# Altium schematic symbol library Rohm_Library.SchLib: 2 symbols
Pins are listed as number, name and electrical type; pins without a type are passive.

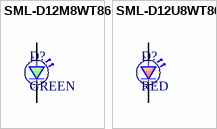
[diagram p0: symbols SML-D12M8WT86 to SML-D12U8WT86]

## SML-D12M8WT86
designator D?, comment GREEN
LED GREEN DIFFUSED 0603 SMD; Manufacturer: Rohm; Manufacturer Part Number: SML-D12M8WT86; Colour: Green,Yellow; Lens Colour: White,Clear,Diffused; Lens Style: Diffused,Colorless,Rectangular; Forward Current: 20mA; Forward Voltage: 2.2V; Luminous Intensity: 25mcd; Dominant Wavelength: 572nm; Number of LEDs: 1; Viewing Angle: 160°; Supplier 1: Mouser; Stock 1: 109326; Pricing 1: 1=0.32, 10=0.216, 50=0.216, 100=0.09, 1000=0.062, 10000=0.041 (USD); Mount: Surface Mount; Case/Package: 0603; Number of Pins: 2; Case Code (Metric): 1608; Case Code (Imperial): 0603; Min Operating Temperature: -40°C; Max Operating Temperature: 85°C; Packaging: Tape and Reel; Wavelength: 572nm; Illumination Colour: Green; Package Quantity: 1; Test Current: 20mA; Lens Transparency: Diffused; Length: 1.6mm; Height: 0.65mm; Width: 0.8mm; Radiation Hardening: No; REACH SVHC: Unknown; Lead Free: Lead Free; ComponentLink1URL: https://datasheet.ciiva.com/11774/0900766b80df3ada-11774260.pdf; ComponentLink1Description: https://datasheet.ciiva.com/11774/0900766b80df3ada-11774260.pdf; ComponentLink2URL: https://datasheet.ciiva.com/3161/sml-d1-3161419.pdf; ComponentLink2Description: https://datasheet.ciiva.com/3161/sml-d1-3161419.pdf; ComponentLink3URL: https://datasheet.ciiva.com/2110/sml-d1-2110396.pdf; ComponentLink3Description: https://datasheet.ciiva.com/2110/sml-d1-2110396.pdf; ComponentLink4URL: https://datasheet.ciiva.com/2110/sml-d1-2110397.pdf; ComponentLink4Description: https://datasheet.ciiva.com/2110/sml-d1-2110397.pdf; ComponentLink5URL: https://datasheet.ciiva.com/2110/sml-d1-2110398.pdf; ComponentLink5Description: https://datasheet.ciiva.com/2110/sml-d1-2110398.pdf
footprint ROHM 0603 LED
pins: A, C

## SML-D12U8WT86
designator D?, comment RED
LED RED DIFFUSED 0603 SMD; Manufacturer: Rohm; Manufacturer Part Number: SML-D12U8WT86; Lens Colour: White,Clear,Diffused; Lens Style: Diffused,Colorless,Rectangular; Forward Voltage: 2.2V; Forward Current: 20mA; Luminous Intensity: 63mcd; Dominant Wavelength: 620nm; Number of LEDs: 1; Viewing Angle: 160°; Supplier 1: Mouser; Stock 1: 16573; Pricing 1: 1=0.32, 10=0.216, 50=0.216, 100=0.09, 1000=0.062, 10000=0.041 (USD); Mount: Surface Mount; Case/Package: 0603; Number of Pins: 2; Colour: Red; Case Code (Metric): 1608; Case Code (Imperial): 0603; Min Operating Temperature: -40°C; Max Operating Temperature: 85°C; Packaging: Tape and Reel; Wavelength: 620nm; Package Quantity: 1; Illumination Colour: Red; Test Current: 20mA; Lens Transparency: Diffused; Length: 1.6mm; Height: 0.65mm; Width: 0.8mm; Radiation Hardening: No; REACH SVHC: No SVHC; Lead Free: Lead Free; ComponentLink1URL: https://datasheet.ciiva.com/11774/0900766b80df3ada-11774020.pdf; ComponentLink1Description: https://datasheet.ciiva.com/11774/0900766b80df3ada-11774020.pdf; ComponentLink2URL: https://datasheet.ciiva.com/2110/sml-d1-2110375.pdf; ComponentLink2Description: https://datasheet.ciiva.com/2110/sml-d1-2110375.pdf; ComponentLink3URL: https://datasheet.ciiva.com/2110/sml-d1-2110376.pdf; ComponentLink3Description: https://datasheet.ciiva.com/2110/sml-d1-2110376.pdf; ComponentLink4URL: https://datasheet.ciiva.com/2110/sml-d1-2110377.pdf; ComponentLink4Description: https://datasheet.ciiva.com/2110/sml-d1-2110377.pdf; ComponentLink5URL: https://datasheet.ciiva.com/9324/sml-d1-9324826.pdf; ComponentLink5Description: https://datasheet.ciiva.com/9324/sml-d1-9324826.pdf; ComponentLink6URL: https://datasheet.ciiva.com/17420/sml-d1-17420939.pdf; ComponentLink6Description: https://datasheet.ciiva.com/17420/sml-d1-17420939.pdf
footprint ROHM 0603 LED
pins: A, C